# Altium footprint library 0805_LED.PcbLib: 1 footprints
Each footprint in its own frame and in the unit in brackets; x right, y up, seen from the top. Pads: shape width x height; smd on the part's side, far side on the other; paste and mask are expansions set on the pad; w line width, h text height; cw(c..) or ccw(c..) is an arc to the next point about the centre after c.
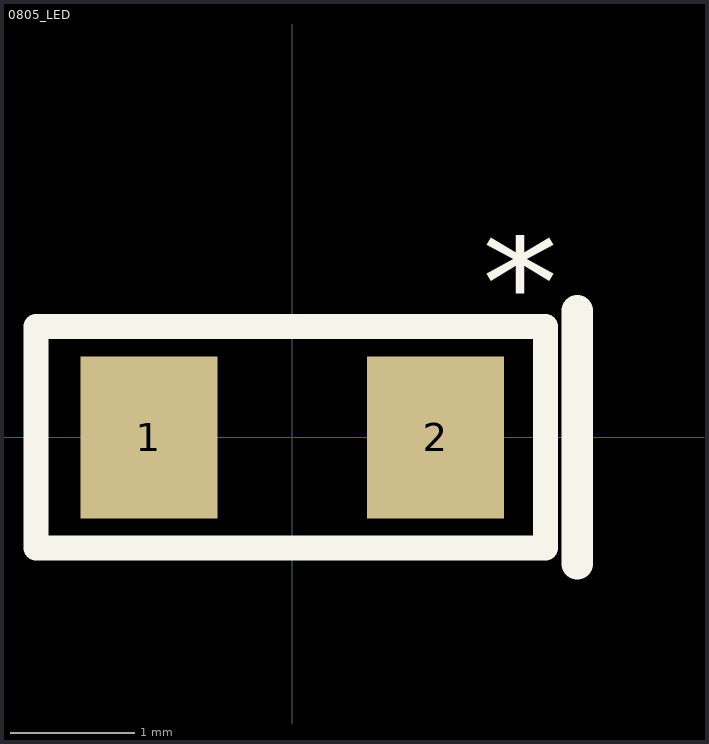
[diagram p0: the footprint, top view; thin cyan lines are the x and y axes]

## 0805_LED [mm]
pads (2):
  rect 1.1x1.3 smd: 1(-1.15,0) 2(1.15,0)
Top Overlay:
  lines w0.2: -2.058,-0.889 -2.058,0.889 2.032,0.889 2.032,-0.889 -2.058,-0.889
  lines w0.25: 2.286,-1.016 2.286,1.016
  text "*" at 1.524,0.508 h1.52
3D body "CHIPLED-0805.step": height 0.9, standoff -0.01, extent -1.05,-0.675 1.05,0.675